# Altium integrated library WE_WR-PHD_Socket Header_2.00mm_rev15a.IntLib: 37 symbols
Pins are listed as number, name and electrical type; pins without a type are passive.

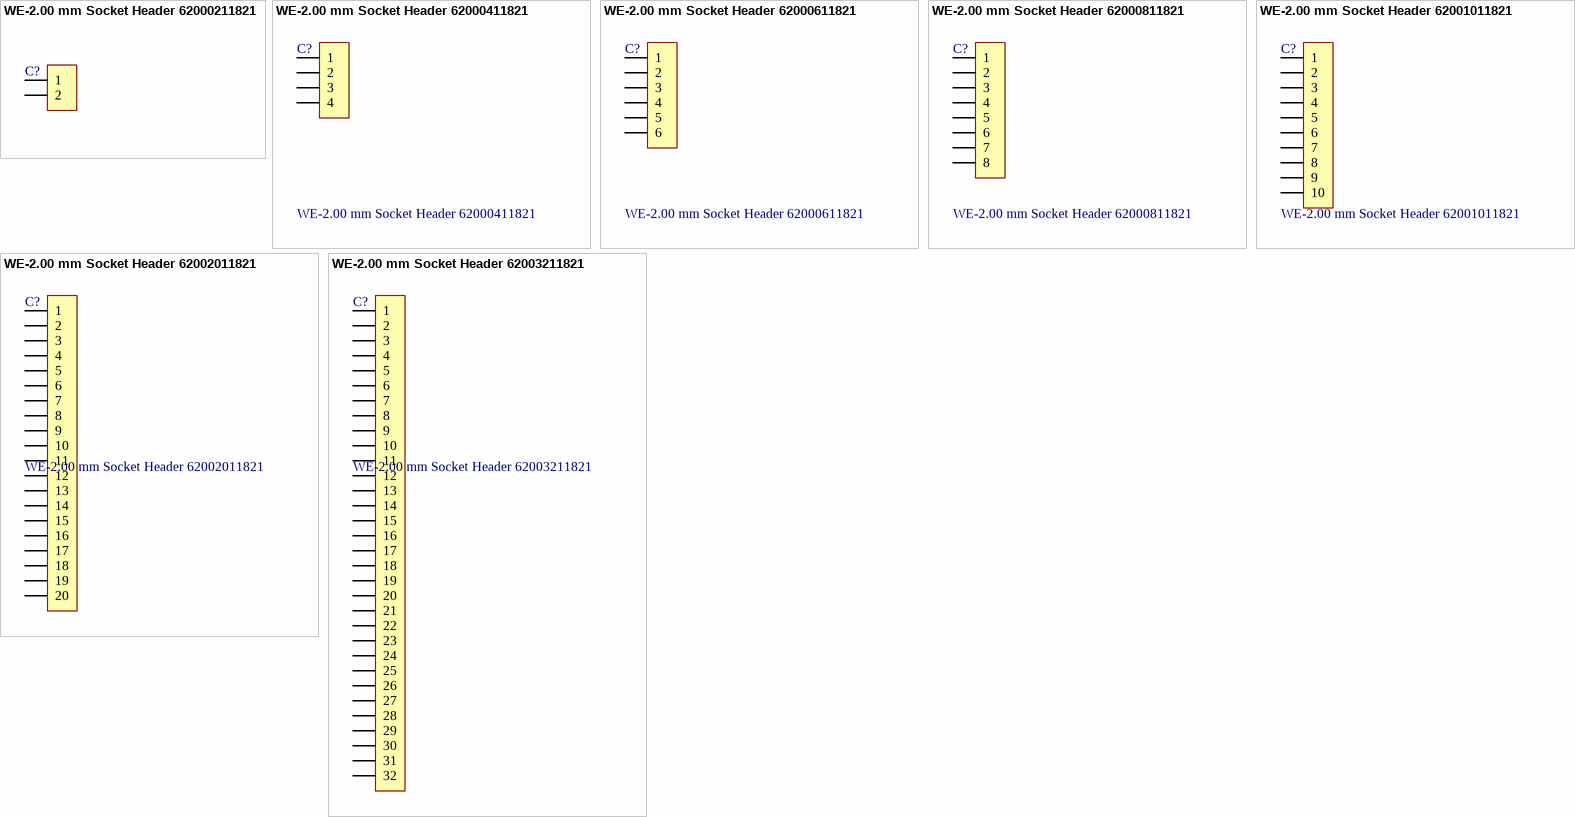
[diagram p0: symbols WE-2.00 mm Socket Header 62000211821 to WE-2.00 mm Socket Header 62003211821]

## WE-2.00 mm Socket Header 62000211821
designator C?
WR-PHD 2.00 mm Socket Header; Manufacturer: Würth Elektronik eiSos GmbH; ComponentLink1 Description: Manufacturer; ComponentLink2 Description: Datasheet; NoPins: 02; Created Date: 2 April 2013; partNo: 62000211821; ComponentLink1URL: http://www.we-online.com; ComponentLink2URL: http://katalog.we-online.de/em/datasheet/6200xx11821.pdf; Created by: Karrer Zheng
footprint 62000211821 (2p, 1 row, straight, gold plating)
pins: 1, 2

## WE-2.00 mm Socket Header 62000411821
designator C?
WR-PHD 2.00 mm Socket Header; Manufacturer: Würth Elektronik eiSos GmbH; ComponentLink1 Description: Manufacturer; ComponentLink2 Description: Datasheet; NoPins: 04; Created Date: 2 April 2013; partNo: 62000411821; ComponentLink1URL: http://www.we-online.com; ComponentLink2URL: http://katalog.we-online.de/em/datasheet/6200xx11821.pdf; Created by: Karrer Zheng
footprint 62000411821 (4p, 1 row, straight, gold plating)
pins: 1, 2, 3, 4

## WE-2.00 mm Socket Header 62000611821
designator C?
WR-PHD 2.00 mm Socket Header; Manufacturer: Würth Elektronik eiSos GmbH; ComponentLink1 Description: Manufacturer; ComponentLink2 Description: Datasheet; NoPins: 06; Created Date: 2 April 2013; partNo: 62000611821; ComponentLink1URL: http://www.we-online.com; ComponentLink2URL: http://katalog.we-online.de/em/datasheet/6200xx11821.pdf; Created by: Karrer Zheng
footprint 62000611821 (6p, 1 row, straight, gold plating)
pins: 1, 2, 3, 4, 5, 6

## WE-2.00 mm Socket Header 62000811821
designator C?
WR-PHD 2.00 mm Socket Header; Manufacturer: Würth Elektronik eiSos GmbH; ComponentLink1 Description: Manufacturer; ComponentLink2 Description: Datasheet; NoPins: 08; Created Date: 2 April 2013; partNo: 62000811821; ComponentLink1URL: http://www.we-online.com; ComponentLink2URL: http://katalog.we-online.de/em/datasheet/6200xx11821.pdf; Created by: Karrer Zheng
footprint 62000811821 (8p, 1 row, straight, gold plating)
pins: 1, 2, 3, 4, 5, 6, 7, 8

## WE-2.00 mm Socket Header 62001011821
designator C?
WR-PHD 2.00 mm Socket Header; Manufacturer: Würth Elektronik eiSos GmbH; ComponentLink1 Description: Manufacturer; ComponentLink2 Description: Datasheet; NoPins: 10; Created Date: 2 April 2013; partNo: 62001011821; ComponentLink1URL: http://www.we-online.com; ComponentLink2URL: http://katalog.we-online.de/em/datasheet/6200xx11821.pdf; Created by: Karrer Zheng
footprint 62001011821 (10p, 1 row, straight, gold plating)
pins: 1, 2, 3, 4, 5, 6, 7, 8, 9, 10

## WE-2.00 mm Socket Header 62002011821
designator C?
WR-PHD 2.00 mm Socket Header; Manufacturer: Würth Elektronik eiSos GmbH; ComponentLink1 Description: Manufacturer; ComponentLink2 Description: Datasheet; NoPins: 20; Created Date: 2 April 2013; partNo: 62002011821; ComponentLink1URL: http://www.we-online.com; ComponentLink2URL: http://katalog.we-online.de/em/datasheet/6200xx11821.pdf; Created by: Karrer Zheng
footprint 62002011821 (20p, 1 row, straight, gold plating)
pins: 1, 2, 3, 4, 5, 6, 7, 8, 9, 10, 11, 12, 13, 14, 15, 16, 17, 18, 19, 20

## WE-2.00 mm Socket Header 62003211821
designator C?
WR-PHD 2.00 mm Socket Header; Manufacturer: Würth Elektronik eiSos GmbH; ComponentLink1 Description: Manufacturer; ComponentLink2 Description: Datasheet; NoPins: 32; Created Date: 2 April 2013; partNo: 62003211821; ComponentLink1URL: http://www.we-online.com; ComponentLink2URL: http://katalog.we-online.de/em/datasheet/6200xx11821.pdf; Created by: Karrer Zheng
footprint 62003211821 (32p, 1 row, straight, gold plating)
pins: 1, 2, 3, 4, 5, 6, 7, 8, 9, 10, 11, 12, 13, 14, 15, 16, 17, 18, 19, 20, 21, 22, 23, 24, 25, 26, 27, 28, 29, 30, 31, 32


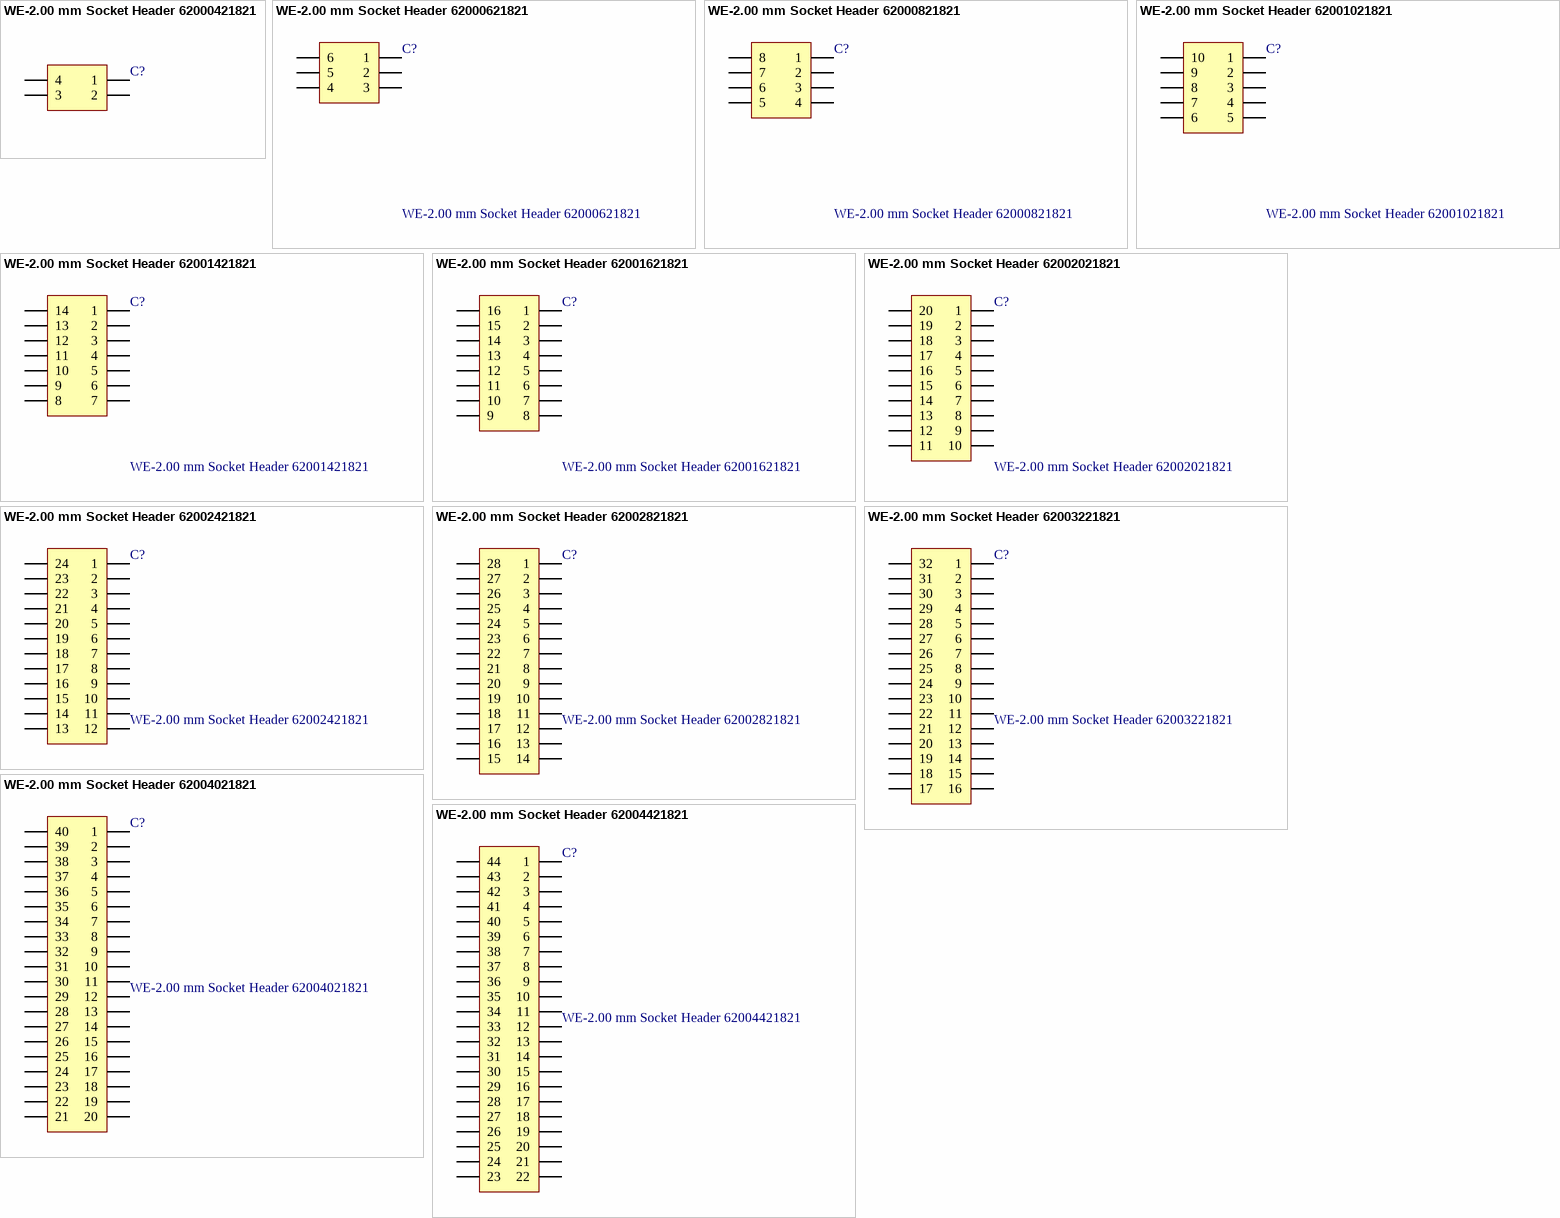
[diagram p1: symbols WE-2.00 mm Socket Header 62000421821 to WE-2.00 mm Socket Header 62004421821]

## WE-2.00 mm Socket Header 62000421821
designator C?
WR-PHD 2.00 mm Dual Socket Header; Manufacturer: Würth Elektronik eiSos GmbH; ComponentLink1 Description: Manufacturer; ComponentLink2 Description: Datasheet; NoPins: 04; Created Date: 2 April 2013; partNo: 62000421821; ComponentLink1URL: http://www.we-online.com; ComponentLink2URL: http://katalog.we-online.de/em/datasheet/6200xx21821.pdf; Created by: Karrer Zheng
footprint 62000421821 (4 pins, dual row, straight, gold plating)
pins: 1, 2, 3, 4

## WE-2.00 mm Socket Header 62000621821
designator C?
WR-PHD 2.00 mm Dual Socket Header; Manufacturer: Würth Elektronik eiSos GmbH; ComponentLink1 Description: Manufacturer; ComponentLink2 Description: Datasheet; NoPins: 06; Created Date: 2 April 2013; partNo: 62000621821; ComponentLink1URL: http://www.we-online.com; ComponentLink2URL: http://katalog.we-online.de/em/datasheet/6200xx21821.pdf; Created by: Karrer Zheng
footprint 62000621821 (6 pins, dual row, straight, gold plating)
pins: 1, 2, 3, 4, 5, 6

## WE-2.00 mm Socket Header 62000821821
designator C?
WR-PHD 2.00 mm Dual Socket Header; Manufacturer: Würth Elektronik eiSos GmbH; ComponentLink1 Description: Manufacturer; ComponentLink2 Description: Datasheet; NoPins: 08; Created Date: 2 April 2013; partNo: 62000821821; ComponentLink1URL: http://www.we-online.com; ComponentLink2URL: http://katalog.we-online.de/em/datasheet/6200xx21821.pdf; Created by: Karrer Zheng
footprint 62000821821 (8 pins, dual row, straight, gold plating)
pins: 1, 2, 3, 4, 5, 6, 7, 8

## WE-2.00 mm Socket Header 62001021821
designator C?
WR-PHD 2.00 mm Dual Socket Header; Manufacturer: Würth Elektronik eiSos GmbH; ComponentLink1 Description: Manufacturer; ComponentLink2 Description: Datasheet; NoPins: 10; Created Date: 2 April 2013; partNo: 62001021821; ComponentLink1URL: http://www.we-online.com; ComponentLink2URL: http://katalog.we-online.de/em/datasheet/6200xx21821.pdf; Created by: Karrer Zheng
footprint 62001021821 (10 pins, dual row, straight, gold plating)
pins: 1, 2, 3, 4, 5, 6, 7, 8, 9, 10

## WE-2.00 mm Socket Header 62001421821
designator C?
WR-PHD 2.00 mm Dual Socket Header; Manufacturer: Würth Elektronik eiSos GmbH; ComponentLink1 Description: Manufacturer; ComponentLink2 Description: Datasheet; NoPins: 14; Created Date: 2 April 2013; partNo: 62001421821; ComponentLink1URL: http://www.we-online.com; ComponentLink2URL: http://katalog.we-online.de/em/datasheet/6200xx21821.pdf; Created by: Karrer Zheng
footprint 62001421821 (14 pins, dual row, straight, gold plating)
pins: 1, 2, 3, 4, 5, 6, 7, 8, 9, 10, 11, 12, 13, 14

## WE-2.00 mm Socket Header 62001621821
designator C?
WR-PHD 2.00 mm Dual Socket Header; Manufacturer: Würth Elektronik eiSos GmbH; ComponentLink1 Description: Manufacturer; ComponentLink2 Description: Datasheet; NoPins: 16; Created Date: 2 April 2013; partNo: 62001621821; ComponentLink1URL: http://www.we-online.com; ComponentLink2URL: http://katalog.we-online.de/em/datasheet/6200xx21821.pdf; Created by: Karrer Zheng
footprint 62001621821 (16 pins, dual row, straight, gold plating)
pins: 1, 2, 3, 4, 5, 6, 7, 8, 9, 10, 11, 12, 13, 14, 15, 16

## WE-2.00 mm Socket Header 62002021821
designator C?
WR-PHD 2.00 mm Dual Socket Header; Manufacturer: Würth Elektronik eiSos GmbH; ComponentLink1 Description: Manufacturer; ComponentLink2 Description: Datasheet; NoPins: 20; Created Date: 2 April 2013; partNo: 62002021821; ComponentLink1URL: http://www.we-online.com; ComponentLink2URL: http://katalog.we-online.de/em/datasheet/6200xx21821.pdf; Created by: Karrer Zheng
footprint 62002021821 (20 pins, dual row, straight, gold plating)
pins: 1, 2, 3, 4, 5, 6, 7, 8, 9, 10, 11, 12, 13, 14, 15, 16, 17, 18, 19, 20

## WE-2.00 mm Socket Header 62002421821
designator C?
WR-PHD 2.00 mm Dual Socket Header; Manufacturer: Würth Elektronik eiSos GmbH; ComponentLink1 Description: Manufacturer; ComponentLink2 Description: Datasheet; NoPins: 24; Created Date: 2 April 2013; partNo: 62002421821; ComponentLink1URL: http://www.we-online.com; ComponentLink2URL: http://katalog.we-online.de/em/datasheet/6200xx21821.pdf; Created by: Karrer Zheng
footprint 62002421821 (24 pins, dual row, straight, gold plating)
pins: 1, 2, 3, 4, 5, 6, 7, 8, 9, 10, 11, 12, 13, 14, 15, 16, 17, 18, 19, 20, 21, 22, 23, 24

## WE-2.00 mm Socket Header 62002821821
designator C?
WR-PHD 2.00 mm Dual Socket Header; Manufacturer: Würth Elektronik eiSos GmbH; ComponentLink1 Description: Manufacturer; ComponentLink2 Description: Datasheet; NoPins: 28; Created Date: 2 April 2013; partNo: 62002821821; ComponentLink1URL: http://www.we-online.com; ComponentLink2URL: http://katalog.we-online.de/em/datasheet/6200xx21821.pdf; Created by: Karrer Zheng
footprint 62002821821 (28 pins, dual row, straight, gold plating)
pins: 1, 2, 3, 4, 5, 6, 7, 8, 9, 10, 11, 12, 13, 14, 15, 16, 17, 18, 19, 20, 21, 22, 23, 24, 25, 26, 27, 28

## WE-2.00 mm Socket Header 62003221821
designator C?
WR-PHD 2.00 mm Dual Socket Header; Manufacturer: Würth Elektronik eiSos GmbH; ComponentLink1 Description: Manufacturer; ComponentLink2 Description: Datasheet; NoPins: 32; Created Date: 2 April 2013; partNo: 62003221821; ComponentLink1URL: http://www.we-online.com; ComponentLink2URL: http://katalog.we-online.de/em/datasheet/6200xx21821.pdf; Created by: Karrer Zheng
footprint 62003221821 (32 pins, dual row, straight, gold plating)
pins: 1, 2, 3, 4, 5, 6, 7, 8, 9, 10, 11, 12, 13, 14, 15, 16, 17, 18, 19, 20, 21, 22, 23, 24, 25, 26, 27, 28, 29, 30, 31, 32

## WE-2.00 mm Socket Header 62004021821
designator C?
WR-PHD 2.00 mm Dual Socket Header; Manufacturer: Würth Elektronik eiSos GmbH; ComponentLink1 Description: Manufacturer; ComponentLink2 Description: Datasheet; NoPins: 40; Created Date: 2 April 2013; partNo: 62004021821; ComponentLink1URL: http://www.we-online.com; ComponentLink2URL: http://katalog.we-online.de/em/datasheet/6200xx21821.pdf; Created by: Karrer Zheng
footprint 62004021821 (40 pins, dual row, straight, gold plating)
pins: 1, 2, 3, 4, 5, 6, 7, 8, 9, 10, 11, 12, 13, 14, 15, 16, 17, 18, 19, 20, 21, 22, 23, 24, 25, 26, 27, 28, 29, 30, 31, 32, 33, 34, 35, 36, 37, 38, 39, 40

## WE-2.00 mm Socket Header 62004421821
designator C?
WR-PHD 2.00 mm Dual Socket Header; Manufacturer: Würth Elektronik eiSos GmbH; ComponentLink1 Description: Manufacturer; ComponentLink2 Description: Datasheet; NoPins: 44; Created Date: 2 April 2013; partNo: 62004421821; ComponentLink1URL: http://www.we-online.com; ComponentLink2URL: http://katalog.we-online.de/em/datasheet/6200xx21821.pdf; Created by: Karrer Zheng
footprint 62004421821 (44 pins, dual row, straight, gold plating)
pins: 1, 2, 3, 4, 5, 6, 7, 8, 9, 10, 11, 12, 13, 14, 15, 16, 17, 18, 19, 20, 21, 22, 23, 24, 25, 26, 27, 28, 29, 30, 31, 32, 33, 34, 35, 36, 37, 38, 39, 40, 41, 42, 43, 44


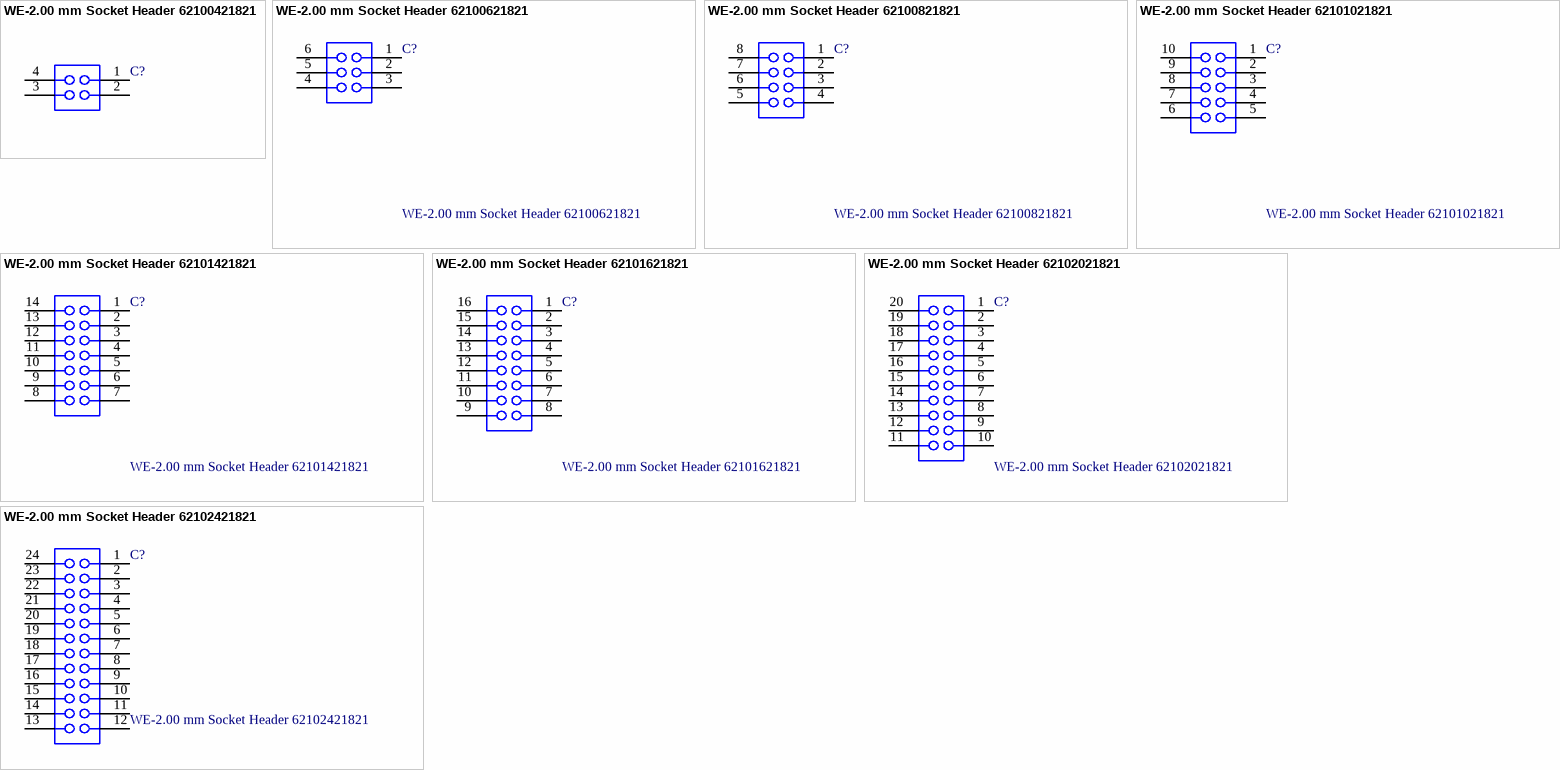
[diagram p2: symbols WE-2.00 mm Socket Header 62100421821 to WE-2.00 mm Socket Header 62102421821]

## WE-2.00 mm Socket Header 62100421821
designator C?
WR-PHD 2.00 mm Dual SMT Socket Header; Manufacturer: Würth Elektronik eiSos GmbH; ComponentLink1 Description: Manufacturer; ComponentLink2 Description: Datasheet; NoPins: 04; Created Date: 3 April 2013; partNo: 62100421821; ComponentLink1URL: http://www.we-online.com; ComponentLink2URL: http://katalog.we-online.de/em/datasheet/6210xx21821.pdf; Created by: Karrer Zheng
footprint 62100421821 (4 pins, dual row, straight, gold plating)
pins: 1, 2, 3, 4

## WE-2.00 mm Socket Header 62100621821
designator C?
WR-PHD 2.00 mm Dual SMT Socket Header; Manufacturer: Würth Elektronik eiSos GmbH; ComponentLink1 Description: Manufacturer; ComponentLink2 Description: Datasheet; NoPins: 06; Created Date: 3 April 2013; partNo: 62100621821; ComponentLink1URL: http://www.we-online.com; ComponentLink2URL: http://katalog.we-online.de/em/datasheet/6210xx21821.pdf; Created by: Karrer Zheng
footprint 62100621821 (6 pins, dual row, straight, gold plating)
pins: 1, 2, 3, 4, 5, 6

## WE-2.00 mm Socket Header 62100821821
designator C?
WR-PHD 2.00 mm Dual SMT Socket Header; Manufacturer: Würth Elektronik eiSos GmbH; ComponentLink1 Description: Manufacturer; ComponentLink2 Description: Datasheet; NoPins: 08; Created Date: 3 April 2013; partNo: 62100821821; ComponentLink1URL: http://www.we-online.com; ComponentLink2URL: http://katalog.we-online.de/em/datasheet/6210xx21821.pdf; Created by: Karrer Zheng
footprint 62100821821 (8 pins, dual row, straight, gold plating)
pins: 1, 2, 3, 4, 5, 6, 7, 8

## WE-2.00 mm Socket Header 62101021821
designator C?
WR-PHD 2.00 mm Dual SMT Socket Header; Manufacturer: Würth Elektronik eiSos GmbH; ComponentLink1 Description: Manufacturer; ComponentLink2 Description: Datasheet; NoPins: 10; Created Date: 3 April 2013; partNo: 62101021821; ComponentLink1URL: http://www.we-online.com; ComponentLink2URL: http://katalog.we-online.de/em/datasheet/6210xx21821.pdf; Created by: Karrer Zheng
footprint 62101021821 (10 pins, dual row, straight, gold plating)
pins: 1, 2, 3, 4, 5, 6, 7, 8, 9, 10

## WE-2.00 mm Socket Header 62101421821
designator C?
WR-PHD 2.00 mm Dual SMT Socket Header; Manufacturer: Würth Elektronik eiSos GmbH; ComponentLink1 Description: Manufacturer; ComponentLink2 Description: Datasheet; NoPins: 14; Created Date: 3 April 2013; partNo: 62101421821; ComponentLink1URL: http://www.we-online.com; ComponentLink2URL: http://katalog.we-online.de/em/datasheet/6210xx21821.pdf; Created by: Karrer Zheng
footprint 62101421821 (14 pins, dual row, straight, gold plating)
pins: 1, 2, 3, 4, 5, 6, 7, 8, 9, 10, 11, 12, 13, 14

## WE-2.00 mm Socket Header 62101621821
designator C?
WR-PHD 2.00 mm Dual SMT Socket Header; Manufacturer: Würth Elektronik eiSos GmbH; ComponentLink1 Description: Manufacturer; ComponentLink2 Description: Datasheet; NoPins: 16; Created Date: 3 April 2013; partNo: 62101621821; ComponentLink1URL: http://www.we-online.com; ComponentLink2URL: http://katalog.we-online.de/em/datasheet/6210xx21821.pdf; Created by: Karrer Zheng
footprint 62101621821 (16 pins, dual row, straight, gold plating)
pins: 1, 2, 3, 4, 5, 6, 7, 8, 9, 10, 11, 12, 13, 14, 15, 16

## WE-2.00 mm Socket Header 62102021821
designator C?
WR-PHD 2.00 mm Dual SMT Socket Header; Manufacturer: Würth Elektronik eiSos GmbH; ComponentLink1 Description: Manufacturer; ComponentLink2 Description: Datasheet; NoPins: 20; Created Date: 3 April 2013; partNo: 62102021821; ComponentLink1URL: http://www.we-online.com; ComponentLink2URL: http://katalog.we-online.de/em/datasheet/6210xx21821.pdf; Created by: Karrer Zheng
footprint 62102021821 (20 pins, dual row, straight, gold plating)
pins: 1, 2, 3, 4, 5, 6, 7, 8, 9, 10, 11, 12, 13, 14, 15, 16, 17, 18, 19, 20

## WE-2.00 mm Socket Header 62102421821
designator C?
WR-PHD 2.00 mm Dual SMT Socket Header; Manufacturer: Würth Elektronik eiSos GmbH; ComponentLink1 Description: Manufacturer; ComponentLink2 Description: Datasheet; NoPins: 24; Created Date: 3 April 2013; partNo: 62102421821; ComponentLink1URL: http://www.we-online.com; ComponentLink2URL: http://katalog.we-online.de/em/datasheet/6210xx21821.pdf; Created by: Karrer Zheng
footprint 62102421821 (24 pins, dual row, straight, gold plating)
pins: 1, 2, 3, 4, 5, 6, 7, 8, 9, 10, 11, 12, 13, 14, 15, 16, 17, 18, 19, 20, 21, 22, 23, 24


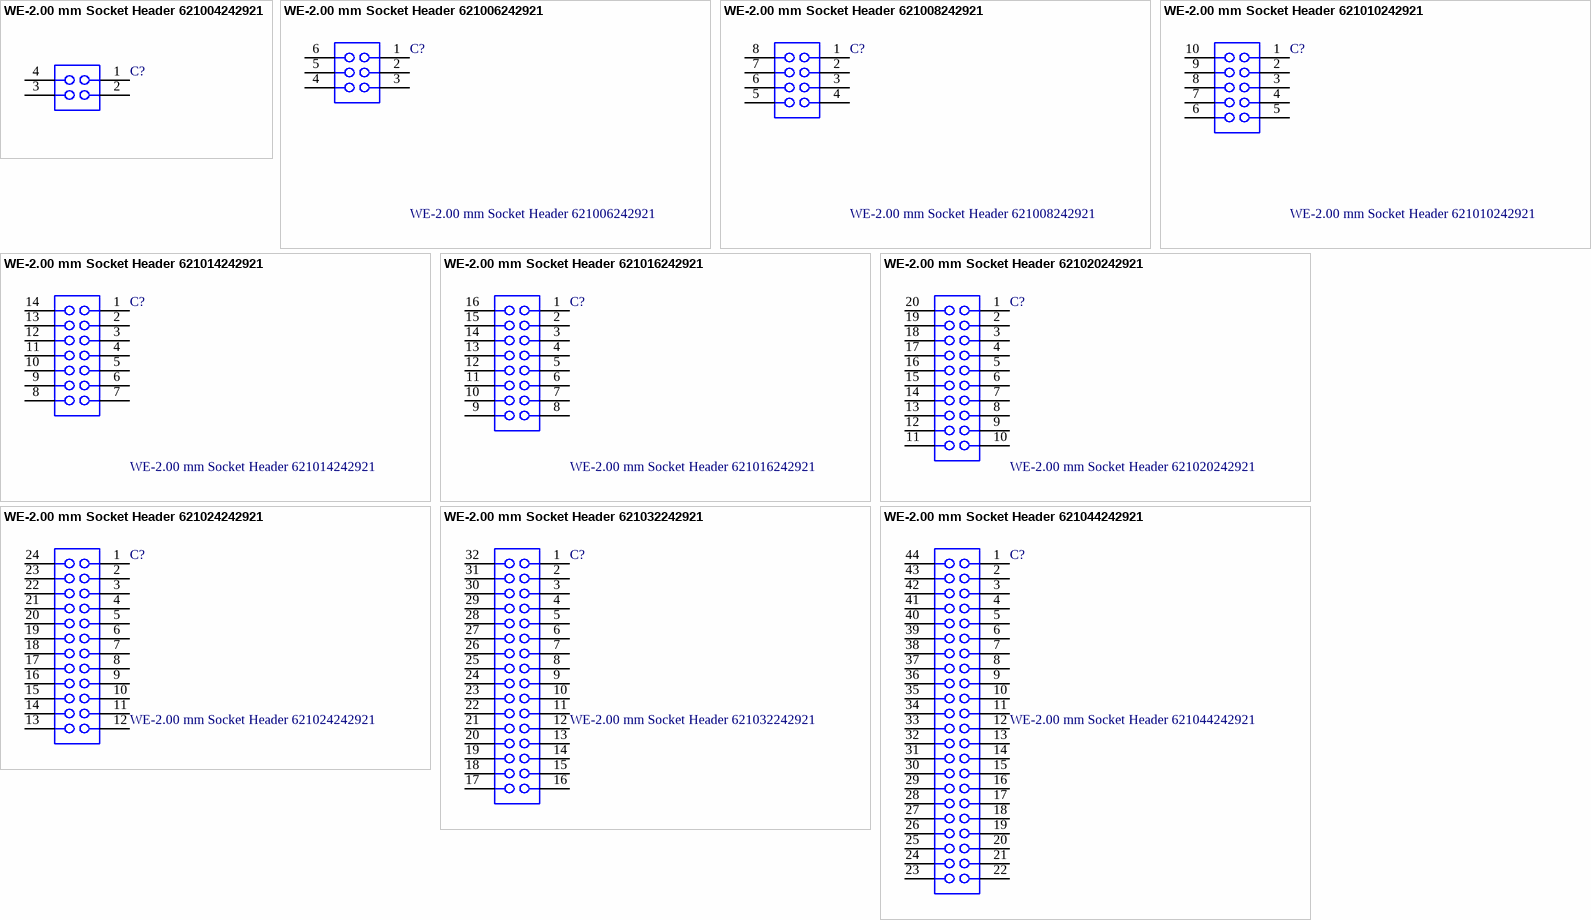
[diagram p3: symbols WE-2.00 mm Socket Header 621004242921 to WE-2.00 mm Socket Header 621044242921]

## WE-2.00 mm Socket Header 621004242921
designator C?
WR-PHD 2.00 mm Dual SMT Socket Header; Manufacturer: Würth Elektronik eiSos GmbH; ComponentLink1 Description: Manufacturer; ComponentLink2 Description: Datasheet; NoPins: 04; Created Date: 3 April 2013; partNo: 621004242921; ComponentLink1URL: http://www.we-online.com; ComponentLink2URL: http://katalog.we-online.de/em/datasheet/6210xx242921.pdf; Created by: Karrer Zheng
footprint 621004242921 (04p dual row straight 4,5mm height)
pins: 1, 2, 3, 4

## WE-2.00 mm Socket Header 621006242921
designator C?
WR-PHD 2.00 mm Dual SMT Socket Header; Manufacturer: Würth Elektronik eiSos GmbH; ComponentLink1 Description: Manufacturer; ComponentLink2 Description: Datasheet; NoPins: 06; Created Date: 3 April 2013; partNo: 621006242921; ComponentLink1URL: http://www.we-online.com; ComponentLink2URL: http://katalog.we-online.de/em/datasheet/6210xx242921.pdf; Created by: Karrer Zheng
footprint 621006242921 (06p dual row straight 4,5mm height)
pins: 1, 2, 3, 4, 5, 6

## WE-2.00 mm Socket Header 621008242921
designator C?
WR-PHD 2.00 mm Dual SMT Socket Header; Manufacturer: Würth Elektronik eiSos GmbH; ComponentLink1 Description: Manufacturer; ComponentLink2 Description: Datasheet; NoPins: 08; Created Date: 3 April 2013; partNo: 621008242921; ComponentLink1URL: http://www.we-online.com; ComponentLink2URL: http://katalog.we-online.de/em/datasheet/6210xx242921.pdf; Created by: Karrer Zheng
footprint 621008242921 (08p dual row straight 4,5mm height)
pins: 1, 2, 3, 4, 5, 6, 7, 8

## WE-2.00 mm Socket Header 621010242921
designator C?
WR-PHD 2.00 mm Dual SMT Socket Header; Manufacturer: Würth Elektronik eiSos GmbH; ComponentLink1 Description: Manufacturer; ComponentLink2 Description: Datasheet; NoPins: 10; Created Date: 3 April 2013; partNo: 621010242921; ComponentLink1URL: http://www.we-online.com; ComponentLink2URL: http://katalog.we-online.de/em/datasheet/6210xx242921.pdf; Created by: Karrer Zheng
footprint 621010242921 (10p dual row straight 4,5mm height)
pins: 1, 2, 3, 4, 5, 6, 7, 8, 9, 10

## WE-2.00 mm Socket Header 621014242921
designator C?
WR-PHD 2.00 mm Dual SMT Socket Header; Manufacturer: Würth Elektronik eiSos GmbH; ComponentLink1 Description: Manufacturer; ComponentLink2 Description: Datasheet; NoPins: 14; Created Date: 3 April 2013; partNo: 621014242921; ComponentLink1URL: http://www.we-online.com; ComponentLink2URL: http://katalog.we-online.de/em/datasheet/6210xx242921.pdf; Created by: Karrer Zheng
footprint 621014242921 (14p dual row straight 4,5mm height)
pins: 1, 2, 3, 4, 5, 6, 7, 8, 9, 10, 11, 12, 13, 14

## WE-2.00 mm Socket Header 621016242921
designator C?
WR-PHD 2.00 mm Dual SMT Socket Header; Manufacturer: Würth Elektronik eiSos GmbH; ComponentLink1 Description: Manufacturer; ComponentLink2 Description: Datasheet; NoPins: 16; Created Date: 3 April 2013; partNo: 621016242921; ComponentLink1URL: http://www.we-online.com; ComponentLink2URL: http://katalog.we-online.de/em/datasheet/6210xx242921.pdf; Created by: Karrer Zheng
footprint 621016242921 (16p dual row straight 4,5mm height)
pins: 1, 2, 3, 4, 5, 6, 7, 8, 9, 10, 11, 12, 13, 14, 15, 16

## WE-2.00 mm Socket Header 621020242921
designator C?
WR-PHD 2.00 mm Dual SMT Socket Header; Manufacturer: Würth Elektronik eiSos GmbH; ComponentLink1 Description: Manufacturer; ComponentLink2 Description: Datasheet; NoPins: 20; Created Date: 3 April 2013; partNo: 621020242921; ComponentLink1URL: http://www.we-online.com; ComponentLink2URL: http://katalog.we-online.de/em/datasheet/6210xx242921.pdf; Created by: Karrer Zheng
footprint 621020242921 (20p dual row straight 4,5mm height)
pins: 1, 2, 3, 4, 5, 6, 7, 8, 9, 10, 11, 12, 13, 14, 15, 16, 17, 18, 19, 20

## WE-2.00 mm Socket Header 621024242921
designator C?
WR-PHD 2.00 mm Dual SMT Socket Header; Manufacturer: Würth Elektronik eiSos GmbH; ComponentLink1 Description: Manufacturer; ComponentLink2 Description: Datasheet; NoPins: 24; Created Date: 3 April 2013; partNo: 621024242921; ComponentLink1URL: http://www.we-online.com; ComponentLink2URL: http://katalog.we-online.de/em/datasheet/6210xx242921.pdf; Created by: Karrer Zheng
footprint 621024242921 (24p dual row straight 4,5mm height)
pins: 1, 2, 3, 4, 5, 6, 7, 8, 9, 10, 11, 12, 13, 14, 15, 16, 17, 18, 19, 20, 21, 22, 23, 24

## WE-2.00 mm Socket Header 621032242921
designator C?
WR-PHD 2.00 mm Dual SMT Socket Header; Manufacturer: Würth Elektronik eiSos GmbH; ComponentLink1 Description: Manufacturer; ComponentLink2 Description: Datasheet; NoPins: 32; Created Date: 3 April 2013; partNo: 621032242921; ComponentLink1URL: http://www.we-online.com; ComponentLink2URL: http://katalog.we-online.de/em/datasheet/6210xx242921.pdf; Created by: Karrer Zheng
footprint 621032242921 (32p dual row straight 4,5mm height)
pins: 1, 2, 3, 4, 5, 6, 7, 8, 9, 10, 11, 12, 13, 14, 15, 16, 17, 18, 19, 20, 21, 22, 23, 24, 25, 26, 27, 28, 29, 30, 31, 32

## WE-2.00 mm Socket Header 621044242921
designator C?
WR-PHD 2.00 mm Dual SMT Socket Header; Manufacturer: Würth Elektronik eiSos GmbH; ComponentLink1 Description: Manufacturer; ComponentLink2 Description: Datasheet; NoPins: 44; Created Date: 3 April 2013; partNo: 621044242921; ComponentLink1URL: http://www.we-online.com; ComponentLink2URL: http://katalog.we-online.de/em/datasheet/6210xx242921.pdf; Created by: Karrer Zheng
footprint 621044242921 (44p dual row straight 4,5mm height)
pins: 1, 2, 3, 4, 5, 6, 7, 8, 9, 10, 11, 12, 13, 14, 15, 16, 17, 18, 19, 20, 21, 22, 23, 24, 25, 26, 27, 28, 29, 30, 31, 32, 33, 34, 35, 36, 37, 38, 39, 40, 41, 42, 43, 44